# Altium schematic symbol library Schlib2.SchLib: 2 symbols
Pins are listed as number, name and electrical type; pins without a type are passive.

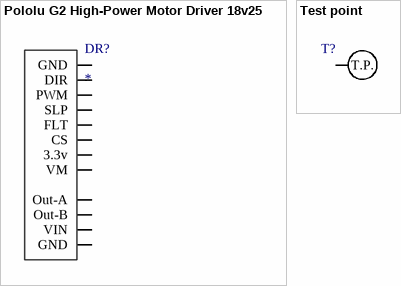
[diagram p0: symbols Pololu G2 High-Power Motor Driver 18v25 to Test point]

## Pololu G2 High-Power Motor Driver 18v25
designator DR?
footprint Pololu G2 High-Power Motor Driver 18v25
pins: 1 GND, 2 DIR, 3 PWM, 4 SLP, 5 FLT, 6 CS, 7 3.3v, 8 VM, 9 Out-A, 10 Out-B, 11 VIN, 12 GND

## Test point
designator T?
footprint Testpoint
pins: 1 T.P.